# Altium schematic symbol library TPD8S300RUKR.SchLib: 1 symbol
Pins are listed as number, name and electrical type; pins without a type are passive.

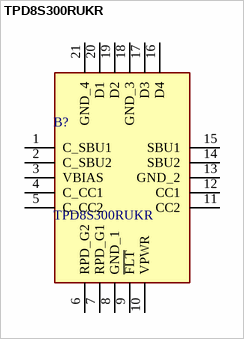
[diagram p0: symbol TPD8S300RUKR]

## TPD8S300RUKR
designator B?
USB Type-C Port Protector: Short-to-VBUS Overvoltage and IEC ESD Protection; Manufacturer_Name: Texas Instruments; Geometry.Height: 0.8mm; Manufacturer_Part_Number: TPD8S300RUKR; Mouser Part Number: 595-TPD8S300RUKR; Mouser Price/Stock: https://www.mouser.co.uk/ProductDetail/Texas-Instruments/TPD8S300RUKR?qs=KuuZdrM3jLxuJ5q64YSnFw%3D%3D; Arrow Part Number: TPD8S300RUKR; Arrow Price/Stock: https://www.arrow.com/en/products/tpd8s300rukr/texas-instruments; Datasheet Link: http://www.ti.com/lit/gpn/tpd8s300
footprint QFN40P300X300X80-21N-D
pins: 1 C_SBU1, 2 C_SBU2, 3 VBIAS, 4 C_CC1, 5 C_CC2, 6 RPD_G2, 7 RPD_G1, 8 GND_1, 9 ~{FLT}, 10 VPWR, 11 CC2, 12 CC1, 13 GND_2, 14 SBU2, 15 SBU1, 16 D4, 17 D3, 18 GND_3, 19 D2, 20 D1, 21 GND_4